# EAGLE library part VS1053 (library VS1053)
Codec for Music player
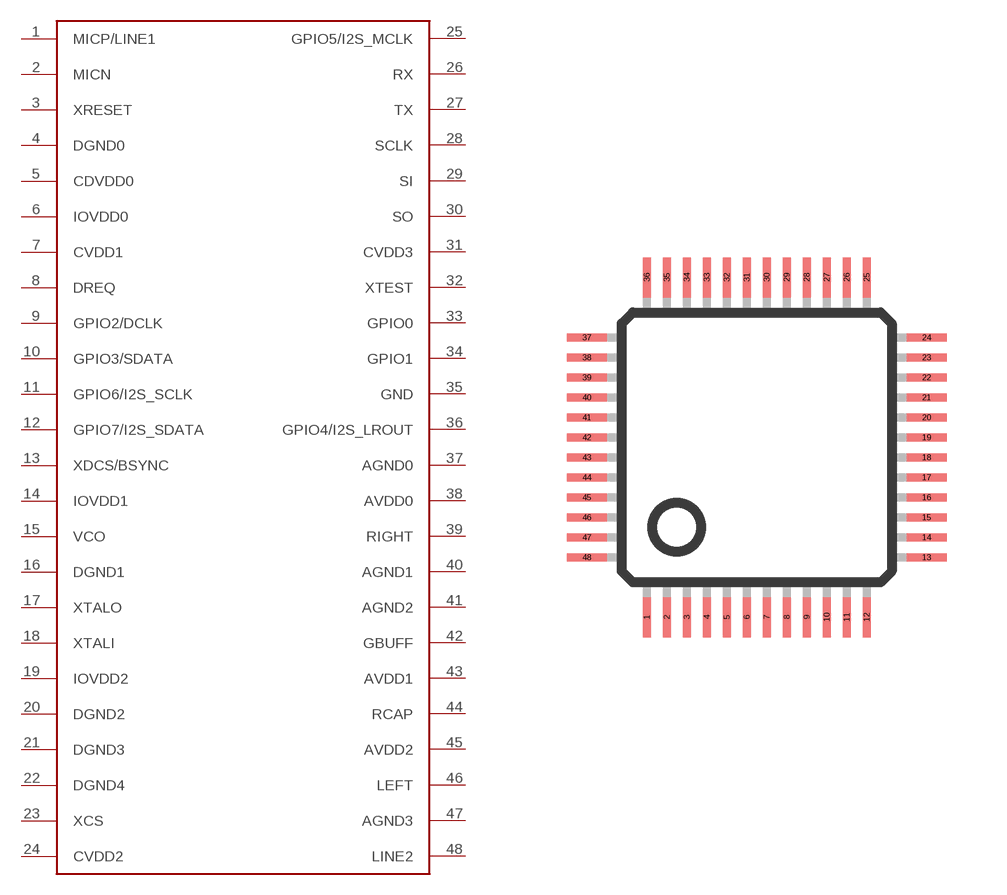
[diagram p0: symbol with the pads of LQFP48; footprint LQFP48]

Designator prefix -

## VS1053  [LQFP48]
1  MICP/LINE1
2  MICN
3  XRESET
4  DGND0
5  CDVDD0
6  IOVDD0
7  CVDD1
8  DREQ
9  GPIO2/DCLK
10  GPIO3/SDATA
11  GPIO6/I2S_SCLK
12  GPIO7/I2S_SDATA
13  XDCS/BSYNC
14  IOVDD1
15  VCO
16  DGND1
17  XTALO
18  XTALI
19  IOVDD2
20  DGND2
21  DGND3
22  DGND4
23  XCS
24  CVDD2
25  GPIO5/I2S_MCLK
26  RX
27  TX
28  SCLK
29  SI
30  SO
31  CVDD3
32  XTEST
33  GPIO0
34  GPIO1
35  GND
36  GPIO4/I2S_LROUT
37  AGND0
38  AVDD0
39  RIGHT
40  AGND1
41  AGND2
42  GBUFF
43  AVDD1
44  RCAP
45  AVDD2
46  LEFT
47  AGND3
48  LINE2

## Footprint LQFP48 (pad centres in mm)
48-pin plastic LQFP (FPT-48P-M26) www.fma.fujitsu.com/pdf/e713717.pdf
smd 0.2 x 1: 1 -2.75,-4.25; 2 -2.25,-4.25; 3 -1.75,-4.25; 4 -1.25,-4.25; 5 -0.75,-4.25; 6 -0.25,-4.25; 7 0.25,-4.25; 8 0.75,-4.25; 9 1.25,-4.25; 10 1.75,-4.25; 11 2.25,-4.25; 12 2.75,-4.25; 25 2.75,4.25; 26 2.25,4.25; 27 1.75,4.25; 28 1.25,4.25; 29 0.75,4.25; 30 0.25,4.25; 31 -0.25,4.25; 32 -0.75,4.25; 33 -1.25,4.25; 34 -1.75,4.25; 35 -2.25,4.25; 36 -2.75,4.25
smd 1 x 0.2: 13 4.25,-2.75; 14 4.25,-2.25; 15 4.25,-1.75; 16 4.25,-1.25; 17 4.25,-0.75; 18 4.25,-0.25; 19 4.25,0.25; 20 4.25,0.75; 21 4.25,1.25; 22 4.25,1.75; 23 4.25,2.25; 24 4.25,2.75; 37 -4.25,2.75; 38 -4.25,2.25; 39 -4.25,1.75; 40 -4.25,1.25; 41 -4.25,0.75; 42 -4.25,0.25; 43 -4.25,-0.25; 44 -4.25,-0.75; 45 -4.25,-1.25; 46 -4.25,-1.75; 47 -4.25,-2.25; 48 -4.25,-2.75